# Altium footprint library Hirose.PcbLib: 5 footprints
Each footprint in its own frame and in the unit in brackets; x right, y up, seen from the top. Pads: shape width x height; smd on the part's side, far side on the other; paste and mask are expansions set on the pad; w line width, h text height; cw(c..) or ccw(c..) is an arc to the next point about the centre after c.
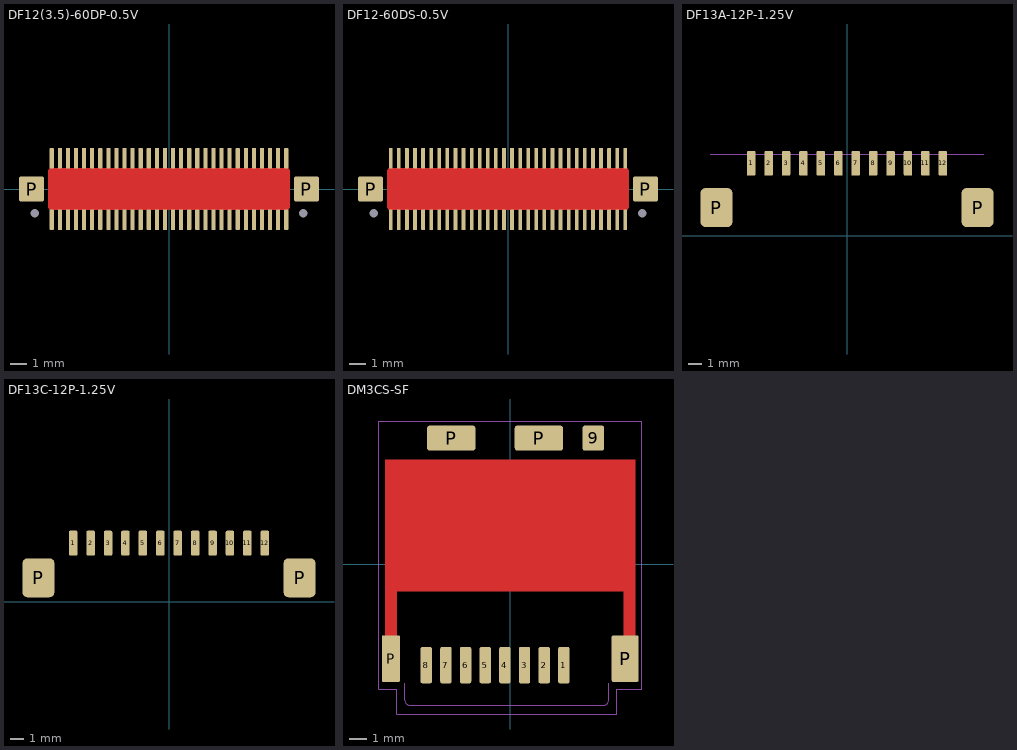
[diagram p0: the footprints below, top view; thin cyan lines are the x and y axes]

## DF12(3.5)-60DP-0.5V [mm]
pads (64):
  rrect30% 0.254x1.27 smd mask+0.051: 1(-7.25,1.905) 2(-7.25,-1.905) 3(-6.75,1.905) 4(-6.75,-1.905) 5(-6.25,1.905) 6(-6.25,-1.905) 7(-5.75,1.905) 8(-5.75,-1.905) 9(-5.25,1.905) 10(-5.25,-1.905) 11(-4.75,1.905) 12(-4.75,-1.905) 13(-4.25,1.905) 14(-4.25,-1.905) 15(-3.75,1.905) 16(-3.75,-1.905) 17(-3.25,1.905) 18(-3.25,-1.905) 19(-2.75,1.905) 20(-2.75,-1.905) 21(-2.25,1.905) 22(-2.25,-1.905) 23(-1.75,1.905) 24(-1.75,-1.905) 25(-1.25,1.905) 26(-1.25,-1.905) 27(-0.75,1.905) 28(-0.75,-1.905) 29(-0.25,1.905) 30(-0.25,-1.905) 31(0.25,1.905) 32(0.25,-1.905) 33(0.75,1.905) 34(0.75,-1.905) 35(1.25,1.905) 36(1.25,-1.905) 37(1.75,1.905) 38(1.75,-1.905) 39(2.25,1.905) 40(2.25,-1.905) 41(2.75,1.905) 42(2.75,-1.905) 43(3.25,1.905) 44(3.25,-1.905) 45(3.75,1.905) 46(3.75,-1.905) 47(4.25,1.905) 48(4.25,-1.905) 49(4.75,1.905) 50(4.75,-1.905) 51(5.25,1.905) 52(5.25,-1.905) 53(5.75,1.905) 54(5.75,-1.905) 55(6.25,1.905) 56(6.25,-1.905) 57(6.75,1.905) 58(6.75,-1.905) 59(7.25,1.905) 60(7.25,-1.905)
  round 0.2 hole 0.55 unplated: C(-8.3,-1.5) D(8.3,-1.5)
  rrect15% 1.55x1.55 smd mask+0.051: P(-8.5,0) P(8.5,0)
Top Layer:
  pour cut-out: 7.366,1.27 -7.366,1.27 -7.468,1.168 -7.468,-1.168 -7.366,-1.27 7.366,-1.27 7.468,-1.168 7.468,1.168
3D body "DF12(3.5)-60DP-0.5V.stp": height 2.8, standoff -0.6, extent -9.05,-2.3 9.05,2.3

## DF12-60DS-0.5V [mm]
pads (64):
  rrect30% 0.229x1.27 smd mask+0.051: 1(7.25,1.905) 2(7.25,-1.905) 3(6.75,1.905) 4(6.75,-1.905) 5(6.25,1.905) 6(6.25,-1.905) 7(5.75,1.905) 8(5.75,-1.905) 9(5.25,1.905) 10(5.25,-1.905) 11(4.75,1.905) 12(4.75,-1.905) 13(4.25,1.905) 14(4.25,-1.905) 15(3.75,1.905) 16(3.75,-1.905) 17(3.25,1.905) 18(3.25,-1.905) 19(2.75,1.905) 20(2.75,-1.905) 21(2.25,1.905) 22(2.25,-1.905) 23(1.75,1.905) 24(1.75,-1.905) 25(1.25,1.905) 26(1.25,-1.905) 27(0.75,1.905) 28(0.75,-1.905) 29(0.25,1.905) 30(0.25,-1.905) 31(-0.25,1.905) 32(-0.25,-1.905) 33(-0.75,1.905) 34(-0.75,-1.905) 35(-1.25,1.905) 36(-1.25,-1.905) 37(-1.75,1.905) 38(-1.75,-1.905) 39(-2.25,1.905) 40(-2.25,-1.905) 41(-2.75,1.905) 42(-2.75,-1.905) 43(-3.25,1.905) 44(-3.25,-1.905) 45(-3.75,1.905) 46(-3.75,-1.905) 47(-4.25,1.905) 48(-4.25,-1.905) 49(-4.75,1.905) 50(-4.75,-1.905) 51(-5.25,1.905) 52(-5.25,-1.905) 53(-5.75,1.905) 54(-5.75,-1.905) 55(-6.25,1.905) 56(-6.25,-1.905) 57(-6.75,1.905) 58(-6.75,-1.905) 59(-7.25,1.905) 60(-7.25,-1.905)
  round 0.2 hole 0.55 unplated: C(-8.3,-1.5) D(8.3,-1.5)
  rrect15% 1.55x1.55 smd mask+0.051: P(-8.5,0) P(8.5,0)
Top Layer:
  pour cut-out: 7.366,1.27 -7.366,1.27 -7.468,1.168 -7.468,-1.168 -7.366,-1.27 7.366,-1.27 7.468,-1.168 7.468,1.168
3D body "DF12-60DS-0.5V.stp": height 2.7, standoff -0.6, extent -9.05,-2.3 9.05,2.3

## DF13A-12P-1.25V [mil] "DF13A Series Connector"
pads (14):
  rrect30% 24x70 smd: 1(-270.67,205) 2(-221.46,205) 3(-172.24,205) 4(-123.03,205) 5(-73.82,205) 6(-24.61,205) 7(24.61,205) 8(73.82,205) 9(123.03,205) 10(172.24,205) 11(221.46,205) 12(270.67,205)
  rrect30% 90x110 smd paste-10: P(-368.82,80) P(368.82,80)
Top 3D Body (Mech16):
  lines w1: -386.81,230 386.81,230
3D body "DF13A-12P-1.25H.stp": height 140.82, standoff -0.91, extent -386.81,-25.91 386.81,230

## DF13C-12P-1.25V [mil] "DF13C Series Connector"
pads (14):
  rrect30% 24x70 smd: 1(-270.67,165) 2(-221.46,165) 3(-172.24,165) 4(-123.03,165) 5(-73.82,165) 6(-24.61,165) 7(24.61,165) 8(73.82,165) 9(123.03,165) 10(172.24,165) 11(221.46,165) 12(270.67,165)
  rrect30% 90x110 smd paste-10: P(-368.82,67) P(368.82,67)
3D body "DF13C-12P-1.25V.stp": height 188.29, standoff -0.69, extent -386.81,0 386.81,192.91

## DM3CS-SF [mm] "¦DM3CS, Hinge, Push -Pull (no ejection mechanism), Top board mounting (Standard)"
pads (13):
  rrect30% 0.635x2.032 smd paste-0.051: 1(3,-5.65) 2(1.9,-5.65) 3(0.8,-5.65) 4(-0.3,-5.65) 5(-1.4,-5.65) 6(-2.5,-5.65) 7(-3.6,-5.65) 8(-4.7,-5.65)
  rrect20% 1.2x1.4 smd paste-0.051: 9(4.65,7.05)
  rrect10% 1x2.6 smd paste-0.051: P(-6.68,-5.283)
  rrect20% 2.7x1.4 smd paste-0.051: P(-3.3,7.05) P(1.6,7.05)
  rrect10% 1.5x2.6 smd paste-0.051: P(6.426,-5.283)
Top Layer:
  pour cut-out: 4.191,5.842 -6.985,5.842 -6.985,1.27 -6.985,-4.191 -6.35,-4.191 -6.35,-1.524 6.35,-1.524 6.35,-4.191 6.985,-4.191 6.985,5.842
Top Component Outline:
  lines w0.025: -7.366,-6.985 -6.35,-6.985 -6.35,-8.382 5.969,-8.382 5.969,-6.985 7.366,-6.985 7.366,8.001 -7.366,8.001 -7.366,-6.985
Top 3D Body (Mech16):
  lines w0.025: -5.9,-6.65 -5.9,-7.6 ccw(c-5.6,-7.6) -5.6,-7.9 5.2,-7.9 ccw(c5.2,-7.6) 5.5,-7.6 5.5,-6.65
3D body "DM3CS-SF.stp": height 1.9, standoff -0.03, extent -6.9,-6.477 6.9,7.623